# Altium footprint library TACTACT SWITCH.PcbLib: 3 footprints
Each footprint in its own frame and in the unit in brackets; x right, y up, seen from the top. Pads: shape width x height; smd on the part's side, far side on the other; paste and mask are expansions set on the pad; w line width, h text height; cw(c..) or ccw(c..) is an arc to the next point about the centre after c.
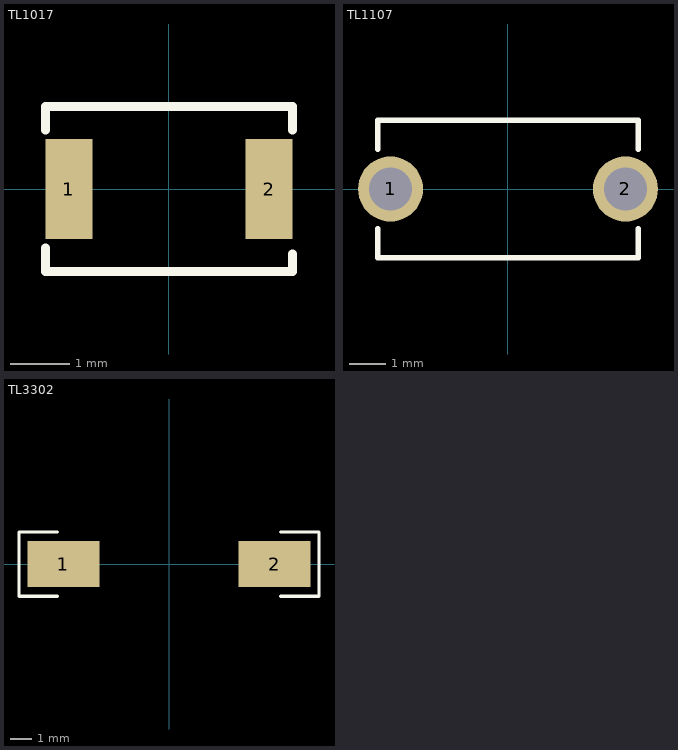
[diagram p0: the footprints below, top view; thin cyan lines are the x and y axes]

## TL1017 [mm]
pads (2):
  rect 0.8x1.7 smd: 1(-1.7,0) 2(1.7,0)
Top Overlay:
  lines w0.15: -2.1,-1 -2.1,-1.4 2.1,-1.4 2.1,-1.1 ; -2.1,1 -2.1,1.4 2.1,1.4 2.1,1
3D body "TL1017AAAF160QG.stp": height 1.51, standoff 0.01, extent -2,-1.25 2,1.25

## TL1107 [mm]
pads (2):
  round 1.8 hole 1.2: 1(-3.25,0) 2(3.25,0)
Top Overlay:
  lines w0.15: -3.6,-1.1 -3.6,-1.9 3.6,-1.9 3.6,-1.1 ; -3.6,1.1 -3.6,1.9 3.6,1.9 3.6,1.1
3D body "TL1107AF130BQ.stp": height 3.91, standoff -1.97, extent -3.41,-1.75 3.41,1.75

## TL3302 [mm]
pads (2):
  rect 3.35x2.16 smd: 1(-4.925,0) 2(4.925,0)
Top Overlay:
  lines w0.15: -5.2,-1.5 -7,-1.5 -7,1.5 -5.2,1.5 ; 5.2,-1.5 7,-1.5 7,1.5 5.2,1.5
3D body "TL3302AF130QG.stp": height 4.25, standoff -0.05, extent -5.1,-1.75 5.1,1.75